# Altium schematic symbol library ld_pulser.SCHLIB: 75 symbols (part 2 of 2)
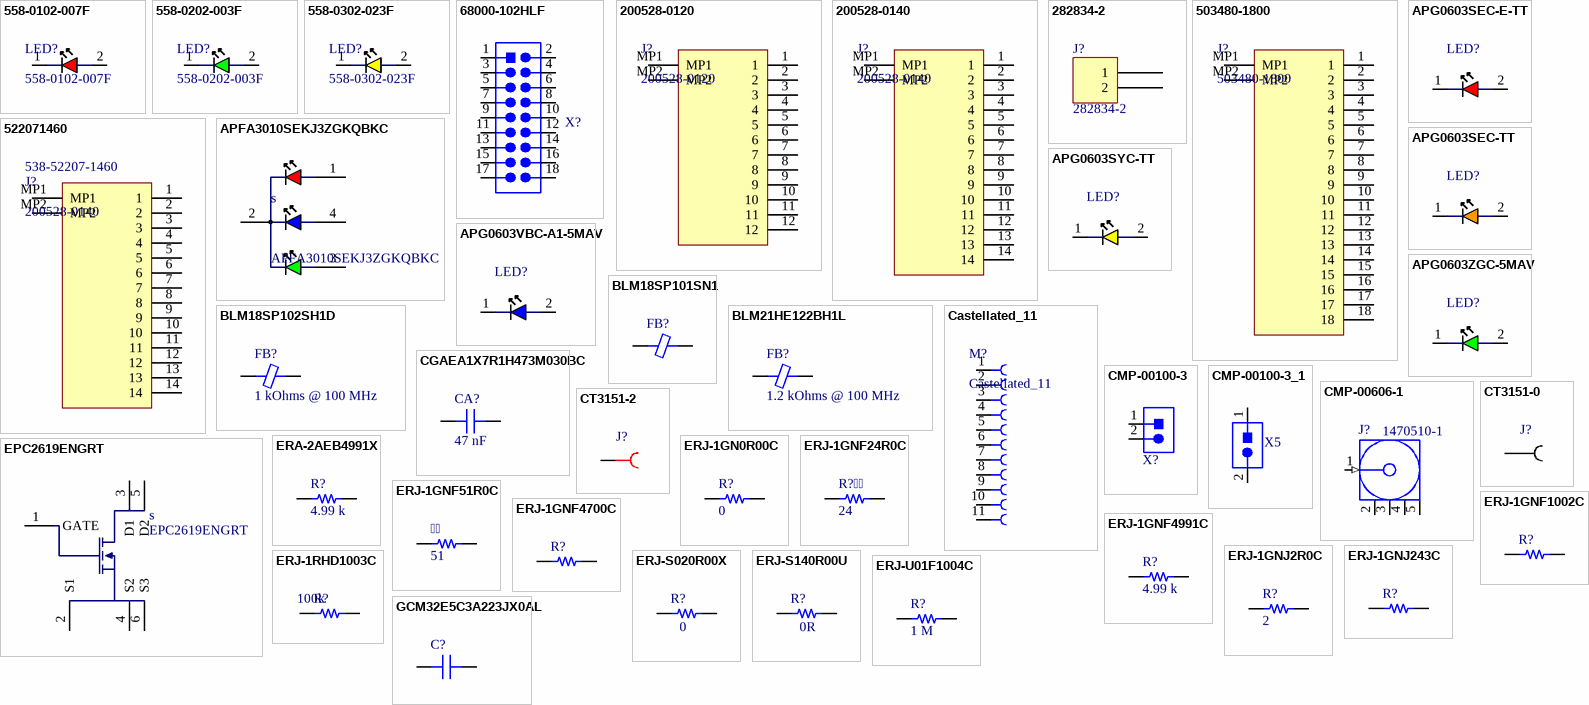
[diagram p2: symbols 558-0102-007F to GCM32E5C3A223JX0AL]

## ERJ-S140R00U
designator R?, comment 0R
RES SMD 0OHM 1/2W 200V 1210; Manufacturer: Panasonic; Manufacturer Part Number: ERJ-S140R00U; Power: 500mW; Rated Temperature: 70°C; Package Height: 0.6mm; Package Length: 3.2mm; Package Width: 2.5mm; Reference Standard: IEC; ComponentLink1URL: https://datasheet.ciiva.com:443/pdfs/VipMasterIC/IC/PANA/PANA-S-A0008969865/PANA-S-A0008969865-1.pdf?src-supplier=IHS+Markit; ComponentLink1Description: https://datasheet.ciiva.com:443/pdfs/VipMasterIC/IC/PANA/PANA-S-A0008969865/PANA-S-A0008969865-1.pdf?src-supplier=IHS+Markit; ComponentLink2URL: https://datasheet.ciiva.com/24051/aoa0000ce5-24051112.pdf?src-supplier=Mouser; ComponentLink2Description: https://datasheet.ciiva.com/24051/aoa0000ce5-24051112.pdf?src-supplier=Mouser; Supplier 1: Mouser; RoHS: Yes; Category: Chip SMD Resistors; Stock 1: 9713; Pricing 1: 1=0.42, 10=0.153, 50=0.153, 100=0.097, 1000=0.073, 10000=0.065 (USD); Mounting Technology: Surface Mount; Pins: 2; Package Shape: Rectangular; Case/Package: 1210; Terminal Finish: Tin; Min Operating Temperature: -55°C; Max Operating Temperature: 155°C; JESD-609 Code: e3; Resistor Type: FIXED RESISTOR; Construction: Rectangular; Package Style: SMTMeter; Packaging: Tape and Reel; Value: 0R; Technology: METAL GLAZE/THICK FILM; Termination: Wraparound; Reach SVHC Compliant: Yes; RoHS Compliant: Yes; ComponentLink3URL: https://datasheet.ciiva.com/24050/aoa0000ce5-24050677.pdf?src-supplier=Mouser; ComponentLink3Description: https://datasheet.ciiva.com/24050/aoa0000ce5-24050677.pdf?src-supplier=Mouser; Supplier Part Number 1: 667-ERJ-S140R00U
footprint CAP 1210_3225 - 1MM (Chip Capacitor, 2-Leads, Body 3.20x2.50mm, IPC Medium Density)
pins: 1, 2

## ERJ-U01F1004C
designator R?, comment 1 M
RES SMD 1MOHM 1% 1/20W 0201; Manufacturer: Panasonic; Manufacturer Part Number: ERJ-U01F1004C; Supplier: Mouser; Supplier Part Number: 667-ERJ-U01F1004C; RoHS: Yes; Category: Chip SMD Resistors; Stock: 28729; Pricing: 1=0.35, 10=0.157, 50=0.157, 100=0.071, 1000=0.049, 10000=0.038 (USD); ComponentLink1URL: https://datasheet.ciiva.com/24200/ras-erj-u-267552-24200389.pdf?src-supplier=Mouser; ComponentLink1Description: https://datasheet.ciiva.com/24200/ras-erj-u-267552-24200389.pdf?src-supplier=Mouser; Supplier 1: Mouser; Supplier Part Number 1: 667-ERJ-U01F1004C
footprint RES 0201_0603
pins: 1, 2

## GCM32E5C3A223JX0AL
designator C?
CAP CER 22nF 1kV C0G 1210; Manufacturer: Murata; Manufacturer Part Number: GCM32E5C3A223JX0AL; Supplier 1: Mouser; RoHS: No; Category: Ceramic Capacitors; Stock 1: 1332; Pricing 1: 1=1.22, 10=0.843, 50=0.843, 100=0.678, 1000=0.497, 10000=0.412 (USD); Supplier Part Number 1: 81-GCM325C3A223JX0AL
footprint CAP 1210_3225 - 1MM
pins: 1, 2

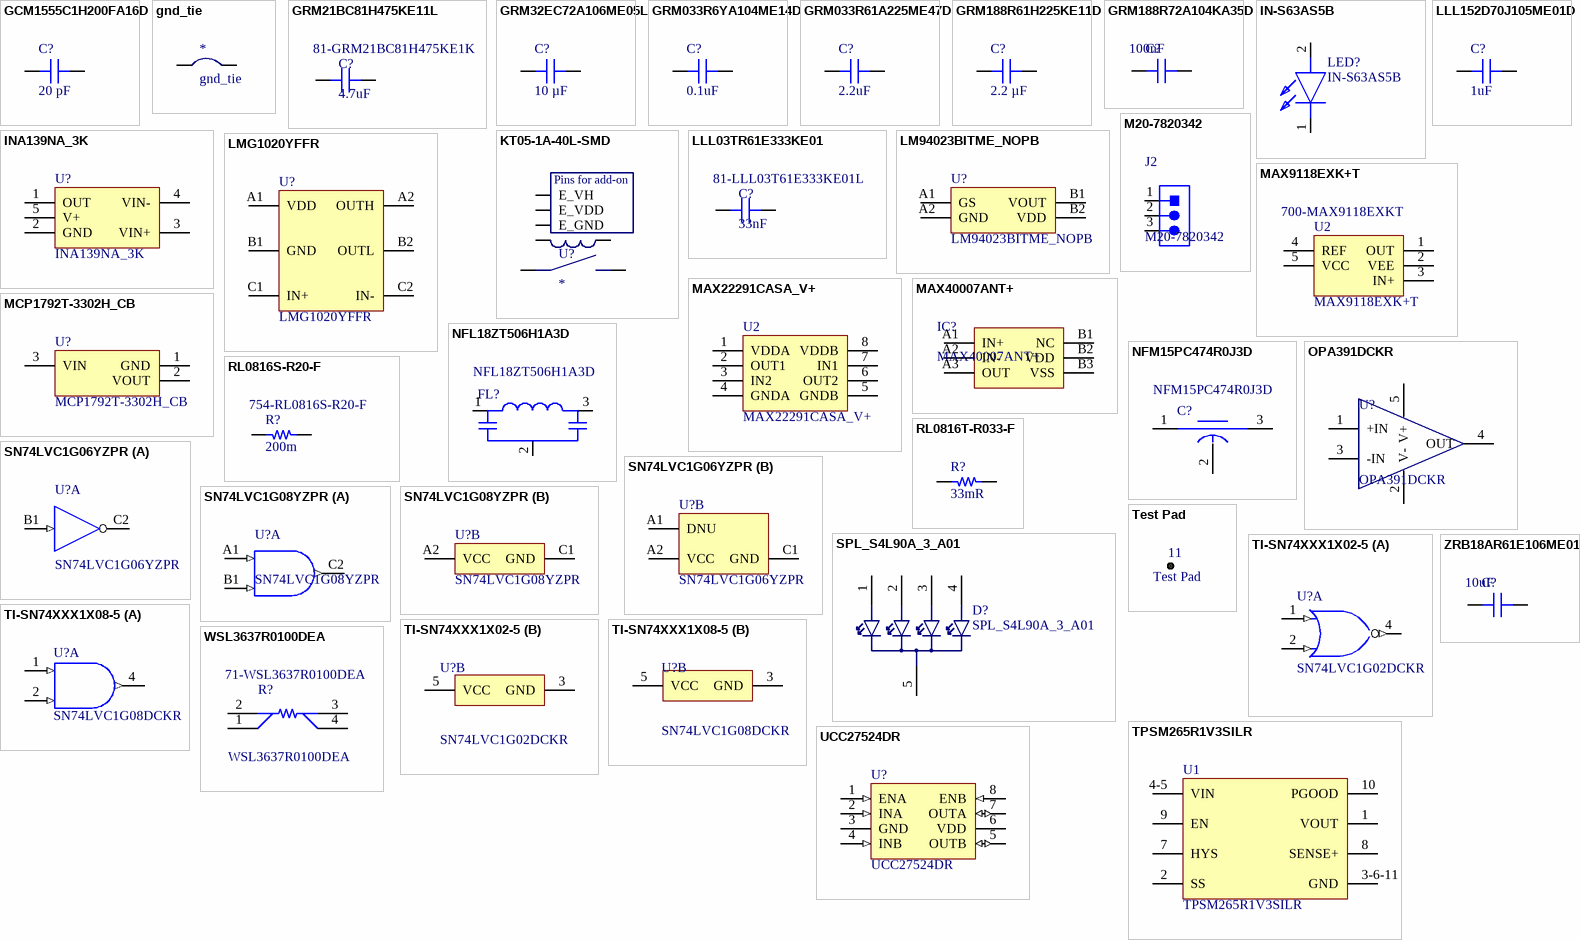
[diagram p1: symbols GCM1555C1H200FA16D to ZRB18AR61E106ME01L]

## GCM1555C1H200FA16D
designator C?, comment 20 pF
CAP CER 20PF 50V C0G/NP0 0402; Part Number: GCM1555C1H200FA16D; manufacturer: Murata Electronics; Temperature Coefficient: C0G, NP0; Tolerance: ±1%; Applications: Automotive; Capacitance: 20 pF; componentlink1description: Datasheet; componentlink1url: https://search.murata.co.jp/Ceramy/image/img/A01X/G101/ENG/GCM1555C1H200FA16-01.pdf; componentlink2description: DigiKey Link; componentlink2url: https://www.digikey.com/en/products/detail/murata-electronics/GCM1555C1H200FA16D/13401847; Device Package: 0402 (1005 Metric); lastupdated: 15/07/2023 19:03:20; Lifecycle Status: Active; Minimum Order: 1; Mounting Type: Surface Mount, MLCC; Operating Temperature: -55°C ~ 125°C; Package / Case: 0402 (1005 Metric); packaging: TapeAndReel; partid: 45712; Part Status: Active; price: 0.01; Ratings: AEC-Q200; series: GCM; Size / Dimension: 0.039" L x 0.020" W (1.00mm x 0.50mm); Thickness (Max): 0.022" (0.55mm); Voltage - Rated: 50V; Supplier 1: Digi-Key; Supplier Part Number 1: 490-GCM1555C1H200FA16DCT-ND; Supplier 2: Mouser; Supplier Part Number 2: 81-GCM1555C1H200FA6D; Value: 20 pF
footprint CAP 0402_1005
pins: 1, 2

## gnd_tie
designator *  (net tie, no BOM)
footprint GND_TIE
pins: 1, 2

## GRM21BC81H475KE11L
designator C?, comment 4.7uF  Supplier Part Number 1: 81-GRM21BC81H475KE1K
CAP CER 4.7UF 50V X6S 0805; Manufacturer: Murata; Manufacturer Part Number: GRM21BC81H475KE11L; Dielectric Material: Ceramic; Tolerance  (fill in as +-): 10%; Multilayer: Yes; Supplier: Mouser; Supplier Part Number: 81-GRM21BC81H475KE1L; RoHS: Yes; Category: Ceramic Capacitors; Stock: 22290; Pricing: 1=0.29, 10=0.141, 50=0.141, 100=0.091, 1000=0.077, 10000=0.062 (USD); Mounting Technology: Surface Mount; Pins: 2; Case/Package: 0805; Terminal Finish: Nickel; Package Shape: Rectangular; Min Operating Temperature: -55°C; Max Operating Temperature: 105°C; JESD-609 Code: e3; Value: 4.7uF; Capacitor Type: Ceramic; Package Style: SMTMeter; Packaging: Tape and Reel; Tolerance (fill in as +-): 10%; Rated DC Voltage (URdc): 50V; Temperature Characteristics Code: X6S; Termination: Wraparound; Length: 2mm; Width: 1.25mm; Height: 1.25mm; Reach SVHC Compliant: Yes; RoHS Compliant: Yes; ComponentLink1URL: https://datasheet.ciiva.com:443/pdfs/VipMasterIC/IC/MURE/MURE-S-A0004349797/MURE-S-A0004361772-1.pdf?src-supplier=IHS+Markit; ComponentLink1Description: https://datasheet.ciiva.com:443/pdfs/VipMasterIC/IC/MURE/MURE-S-A0004349797/MURE-S-A0004361772-1.pdf?src-supplier=IHS+Markit; ComponentLink2URL: http://www.mouser.com/ds/2/281/c02e-2905.pdf?src-supplier=Mouser; ComponentLink2Description: http://www.mouser.com/ds/2/281/c02e-2905.pdf?src-supplier=Mouser; ComponentLink3URL: http://search.murata.co.jp/Ceramy/image/img/A01X/G101/ENG/GRM21BC81H475KE11-01.pdf?src-supplier=Digi-Key; ComponentLink3Description: http://search.murata.co.jp/Ceramy/image/img/A01X/G101/ENG/GRM21BC81H475KE11-01.pdf?src-supplier=Digi-Key; ComponentLink4URL: https://search.murata.co.jp/Ceramy/image/img/A01X/G101/ENG/GRM21BC81H475KE11-01.pdf?src-supplier=Digi-Key; ComponentLink4Description: https://search.murata.co.jp/Ceramy/image/img/A01X/G101/ENG/GRM21BC81H475KE11-01.pdf?src-supplier=Digi-Key; Supplier 1: Mouser
footprint CAP 0805_2012 (Chip Capacitor, 2-Leads, Body 2.00x1.20mm, IPC Medium Density)
pins: 1, 2

## GRM32EC72A106ME05L
designator C?, comment 10 µF
CAP CER 10UF 100V X7S 1210; Part Number: GRM32EC72A106ME05L; manufacturer: Murata Electronics; Tolerance: ±20%; Applications: General Purpose; Capacitance: 10 µF; componentlink1description: Datasheet; componentlink1url: https://search.murata.co.jp/Ceramy/image/img/A01X/G101/ENG/GRM32EC72A106ME05-01A.pdf; componentlink2description: DigiKey Link; componentlink2url: https://www.digikey.com/en/products/detail/murata-electronics/GRM32EC72A106ME05L/16033383; Device Package: 1210 (3225 Metric); lastupdated: 16/07/2023 19:11:38; Lifecycle Status: Active; Minimum Order: 1; Mounting Type: Surface Mount, MLCC; Operating Temperature: -55°C ~ 125°C; Package / Case: 1210 (3225 Metric); packaging: TapeAndReel; partid: 44868; Part Status: Active; price: 0.28; series: GRM; Size / Dimension: 0.126" L x 0.098" W (3.20mm x 2.50mm); Temperature Coefficient: X7S; Thickness (Max): 0.106" (2.70mm); Voltage - Rated: 100V; Supplier 1: Digi-Key; Supplier Part Number 1: 490-GRM32EC72A106ME05LCT-ND; Value: 10 µF
footprint CAP 1210_3225 - 1MM
pins: 1, 2

## GRM033R6YA104ME14D
designator C?, comment 0.1uF
CAP CER 0.1UF 35V X5R 0201; Part Number: GRM033R6YA104ME14D; manufacturer: Murata Electronics; Capacitance: 0.1 µF; Tolerance: ±20%; Applications: General Purpose; componentlink1description: Datasheet; componentlink1url: https://search.murata.co.jp/Ceramy/image/img/A01X/G101/ENG/GRM033R6YA104ME14-01.pdf; componentlink2description: DigiKey Link; componentlink2url: https://www.digikey.com/en/products/detail/murata-electronics/GRM033R6YA104ME14D/5027516; Device Package: 0201 (0603 Metric); lastupdated: 15/07/2023 19:00:56; Lifecycle Status: Active; Minimum Order: 1; Mounting Type: Surface Mount; Operating Temperature: -55°C ~ 85°C; Package / Case: 0201 (0603 Metric); packaging: CutTape; partid: 17; Part Status: Active; price: 0.01; series: GRM; Size / Dimension: 0.024" L x 0.012" W (0.60mm x 0.30mm); Temperature Coefficient: X5R; Thickness (Max): 0.013" (0.33mm); Voltage - Rated: 35V; Supplier 1: Digi-Key; Supplier Part Number 1: 490-10431-1-ND; Supplier 2: Mouser; Supplier Part Number 2: 81-GRM33R6YA104ME14D; Value: 0.1uF
footprint CAP 0201_0603
pins: 1, 2

## GRM033R61A225ME47D
designator C?, comment 2.2uF
CAP CER 2.2UF 10V X5R 0201; Manufacturer: Murata; Manufacturer Part Number: GRM033R61A225ME47D; Dielectric Material: Ceramic; Multilayer: Yes; Tolerance  (fill in as +-): 20%; Supplier: Digi-Key; Supplier Part Number: 490-13228-1-ND; RoHS: Yes; Category: Ceramic Capacitors; Stock: 1914434; Pricing: 1=0.24, 10=0.164, 50=0.0986, 100=0.0833, 500=0.05702, 1000=0.05044, 2500=0.04825, 5000=0.04386 (USD); Mounting Technology: Surface Mount; Pins: 2; Package Shape: Rectangular; Case/Package: 0201; Min Operating Temperature: -55°C; Max Operating Temperature: 85°C; Capacitor Type: Ceramic; Packaging: Tape and Reel; Tolerance (fill in as +-): 20%; Rated DC Voltage (URdc): 10V; Temperature Characteristics Code: X5R; Termination: Wraparound; Reach SVHC Compliant: Yes; RoHS Compliant: Yes; ComponentLink1URL: https://datasheet.ciiva.com:443/pdfs/VipMasterIC/IC/MURE/MURE-S-A0002781892/MURE-S-A0002781892-1.pdf?src-supplier=IHS+Markit; ComponentLink1Description: https://datasheet.ciiva.com:443/pdfs/VipMasterIC/IC/MURE/MURE-S-A0002781892/MURE-S-A0002781892-1.pdf?src-supplier=IHS+Markit; ComponentLink2URL: http://search.murata.co.jp/Ceramy/image/img/A01X/G101/ENG/GRM033R61A225ME47-01.pdf?src-supplier=Digi-Key; ComponentLink2Description: http://search.murata.co.jp/Ceramy/image/img/A01X/G101/ENG/GRM033R61A225ME47-01.pdf?src-supplier=Digi-Key; ComponentLink3URL: https://www.murata.com/~/media/webrenewal/support/library/catalog/products/capacitor/mlcc/c02e.ashx?la=en-us&src-supplier=Digi-Key; ComponentLink3Description: https://www.murata.com/~/media/webrenewal/support/library/catalog/products/capacitor/mlcc/c02e.ashx?la=en-us&src-supplier=Digi-Key; ComponentLink4URL: https://datasheet.octopart.com/GRM033R61A225ME47D-Murata-datasheet-149522795.pdf?src-supplier=Newark; ComponentLink4Description: https://datasheet.octopart.com/GRM033R61A225ME47D-Murata-datasheet-149522795.pdf?src-supplier=Newark; ComponentLink5URL: https://datasheet.octopart.com/GRM033R61A225ME47D-Murata-datasheet-86568079.pdf?src-supplier=Future+Electronics; ComponentLink5Description: https://datasheet.octopart.com/GRM033R61A225ME47D-Murata-datasheet-86568079.pdf?src-supplier=Future+Electronics; Supplier 1: Mouser; Supplier Part Number 1: 81-GRM033R61A225ME7D; Value: 2.2uF
footprint CAP 0201_0603
pins: 1, 2

## GRM188R61H225KE11D
designator C?, comment 2.2 µF
CAP CER 2.2UF 50V X5R 0603; Part Number: GRM188R61H225KE11D; manufacturer: Murata Electronics; Tolerance: ±10%; Applications: General Purpose; Capacitance: 2.2 µF; componentlink1description: Datasheet; componentlink1url: https://search.murata.co.jp/Ceramy/image/img/A01X/G101/ENG/GRM188R61H225KE11-01.pdf; componentlink2description: DigiKey Link; componentlink2url: https://www.digikey.com/en/products/detail/murata-electronics/GRM188R61H225KE11D/4905363; Device Package: 0603 (1608 Metric); lastupdated: 15/07/2023 19:07:37; Lifecycle Status: Active; Minimum Order: 1; Mounting Type: Surface Mount, MLCC; Operating Temperature: -55°C ~ 85°C; Package / Case: 0603 (1608 Metric); packaging: TapeAndReel; partid: 39151; Part Status: Active; price: 0.04; series: GRM; Size / Dimension: 0.063" L x 0.031" W (1.60mm x 0.80mm); Supplier 1: DigiKey; Supplier Part Number 1: 490-10733-1-ND; Temperature Coefficient: X5R; Thickness (Max): 0.039" (1.00mm); Voltage - Rated: 50V; Supplier 2: Mouser; Supplier Part Number 2: 81-GRM188R61H225KE1D; Value: 2.2 µF
footprint CAP 0603_1608
pins: 1, 2

## GRM188R72A104KA35D
designator C?, comment 100nF
CAP CER 100nF 100V X7R 0603; Manufacturer: Murata; Manufacturer Part Number: GRM188R72A104KA35D; Dielectric Material: Ceramic; Multilayer: Yes; Tolerance  (fill in as +-): 10%; Supplier 1: Mouser; RoHS: Yes; Category: Ceramic Capacitors; Stock 1: 271684; Pricing 1: 1=0.2, 10=0.086, 50=0.086, 100=0.05, 1000=0.043, 10000=0.035 (USD); Mounting Technology: Surface Mount; Pins: 2; Package Shape: Rectangular; Case/Package: 0603; Terminal Finish: Nickel; Min Operating Temperature: -55°C; Max Operating Temperature: 125°C; JESD-609 Code: e3; Value: 100nF; Capacitor Type: Ceramic; Packaging: Tape and Reel; Tolerance (fill in as +-): 10%; Rated DC Voltage (URdc): 100V; Temperature Characteristics Code: X7R; Termination: Wraparound; Package Style: SMTMeter; Length: 1.6mm; Width: 0.8mm; Height: 0.8mm; Reach SVHC Compliant: Yes; RoHS Compliant: Yes; ComponentLink1URL: https://psearch.en.murata.com:443/capacitor/product/GRM188R72A104KA35%23.pdf?src-supplier=IHS+Markit; ComponentLink1Description: https://psearch.en.murata.com:443/capacitor/product/GRM188R72A104KA35%23.pdf?src-supplier=IHS+Markit; ComponentLink2URL: https://datasheet.ciiva.com/22703/1747473-22703345.pdf?src-supplier=Element14; ComponentLink2Description: https://datasheet.ciiva.com/22703/1747473-22703345.pdf?src-supplier=Element14; ComponentLink3URL: https://datasheet.ciiva.com/135/partnumbering-e-01-135139.pdf?src-supplier=Digikey; ComponentLink3Description: https://datasheet.ciiva.com/135/partnumbering-e-01-135139.pdf?src-supplier=Digikey; Supplier Part Number 1: 81-GRM188R72A104KA35
footprint CAP 0603_1608
pins: 1, 2

## IN-S63AS5B
designator LED?
LED Yellow; Manufacturer_Name: Inolux; Datasheet Link: http://www.inolux-corp.com/datasheet/SMDLED/Mono%20Color%20Side%20View/IN-S63AS%20Series_V1.0.pdf; Height: 0.6mm; Manufacturer_Part_Number: IN-S63AS5B; Mouser Part Number: 743-IN-S63AS5B; Mouser Price/Stock: https://www.mouser.co.uk/ProductDetail/Inolux/IN-S63AS5B?qs=fAHHVMwC%252BbgzW8KiPFfE%252Bg%3D%3D; Arrow Part Number: IN-S63AS5B; Arrow Price/Stock: https://www.arrow.com/en/products/in-s63as5b/inolux-corporation?region=nac
footprint INS63AS5B
pins: 1 K, 2 A

## INA139NA_3K
designator U?
IC Inamp high-side current monitor; Manufacturer: Texas Instruments; Manufacturer Part Number: INA139NA/3K; Package Body Material: Plastic; Amplifier Type: INSTRUMENTATION AMPLIFIER; Bandwidth (3dB)-Nom: 440kHz; Common Mode Rejection Ratio-Min: 100dB; Input Offset Voltage-Max: 1mV; Non-linearity-Max: 0.1%; Channels: 1; Package Equivalence Code: TSSOP14,.25; Supply Voltage Limit-Max: 60V; Nominal Supply Voltage: 5V; Voltage Gain-Max: 100; Average Bias Current-Max (IIB): 10uA; Qualification Status: Not Qualified; Supplier 1: Mouser; RoHS: Yes; Category: Amplifiers - Op Amps, Buffer, Instrumentation; Stock 1: 21999; Pricing 1: 1=1.5, 10=1.27, 50=1.27, 100=1.02, 1000=0.737, 10000=0.736 (USD); Case/Package: LSSOP; Pins: 5; Package Shape: Rectangular; Terminal Finish: Nickel; Min Operating Temperature: -40°C; Max Operating Temperature: 125°C; JESD-609 Code: e4; JESD-30 Code: R-PDSO-G5; Moisture Sensitivity Level: 2; Package Style: SMALL OUTLINE, LOW PROFILE, SHRINK PITCHMeter; Packaging: Tape and Reel; Peak Reflow Temperature (Cel): 260°C; Surface Mount: Yes; Terminal Form: Gull Wing; Terminal Position: DUAL; Voltage Gain-Min: 1; Length: 2.9mm; Width: 1.6mm; Height - Seated (Max): 1.45mm; Terminal Pitch: 0.95mm; Temperature Grade: AUTOMOTIVE; Reach SVHC Compliant: Yes; RoHS Compliant: Yes; ComponentLink1URL: https://www.ti.com:443/lit/ds/symlink/ina139.pdf?src-supplier=IHS+Markit; ComponentLink1Description: https://www.ti.com:443/lit/ds/symlink/ina139.pdf?src-supplier=IHS+Markit; ComponentLink2URL: https://datasheet.ciiva.com/15128/getdatasheetpartid-248784-15128606.pdf?src-supplier=Verical; ComponentLink2Description: https://datasheet.ciiva.com/15128/getdatasheetpartid-248784-15128606.pdf?src-supplier=Verical; ComponentLink3URL: https://datasheet.ciiva.com/1939/ina139-1939993.pdf?src-supplier=Digi-Key; ComponentLink3Description: https://datasheet.ciiva.com/1939/ina139-1939993.pdf?src-supplier=Digi-Key; ComponentLink4URL: https://datasheet.ciiva.com/2976/ina169-2976115.pdf?src-supplier=Avnet; ComponentLink4Description: https://datasheet.ciiva.com/2976/ina169-2976115.pdf?src-supplier=Avnet; ComponentLink5URL: https://datasheet.ciiva.com/1939/ina139-1939992.pdf?src-supplier=Digi-Key; ComponentLink5Description: https://datasheet.ciiva.com/1939/ina139-1939992.pdf?src-supplier=Digi-Key; ComponentLink6URL: https://datasheet.ciiva.com/1939/ina139-1939994.pdf?src-supplier=Digi-Key; ComponentLink6Description: https://datasheet.ciiva.com/1939/ina139-1939994.pdf?src-supplier=Digi-Key; Supplier Part Number 1: 595-INA139NA/3K
footprint SOT95P280X145-5N
pins: 1 OUT, 2 GND, 3 VIN+, 4 VIN-, 5 V+

## KT05-1A-40L-SMD
designator U?
Dry Reed Relay, SPST, Momentary, 0.063A (Coil), 5VDC (Coil), 315mW (Coil), 1A (Contact), 1000VDC (Contact), DC Input, AC/DC Output, Surface Mount-Straight; Manufacturer: Standex-Meder Electronics; Manufacturer Part Number: KT05-1A-40L-SMD; Coil Current(DC)-Max: 63mA; Coil Operate Voltage(DC): 3.5V; Coil Release Voltage(DC): 500mV; Coil Resistance: 80R; Coil Voltage(DC)-Max: 5V; Contact AC Max Rating R Load: 1A@1000VAC; Contact DC Max Rating R Load: 1A@1000VDC; Contact Voltage(AC)-Max: 1kV; Operate Time: 1.1ms; Release Time: 0.1ms; Body Breadth: 11inch; Body Height: 9mm; Body Length or Diameter: 30mm; Supplier 1: Mouser; RoHS: Yes; Stock 1: 3009; Pricing 1: 1=9.26, 10=8.68, 50=7.33, 100=6.94, 1000=5.17, 10000=5.17 (USD); Mounting Technology: Surface Mount; Min Operating Temperature: -40°C; Max Operating Temperature: 125°C; Termination: Solder; Coil Power: 315mW; Coil/Input Supply Type: DC; Contact Current(AC)-Max: 1A; Contact Current(DC)-Max: 1A; Contact Voltage(DC)-Max: 1kV; Contact/Output Supply Type: AC/DC; Relay Action: MOMENTARY; Relay Function: SPST; Relay Type: DRY REED RELAY; Reach SVHC Compliant: Yes; RoHS Compliant: Yes; ComponentLink1URL: https://datasheet.ciiva.com:443/pdfs/VipMasterIC/IC/STME/STME-S-A0004366044/STME-S-A0004366044-1.pdf?src-supplier=IHS+Markit; ComponentLink1Description: https://datasheet.ciiva.com:443/pdfs/VipMasterIC/IC/STME/STME-S-A0004366044/STME-S-A0004366044-1.pdf?src-supplier=IHS+Markit; ComponentLink2URL: https://datasheet.ciiva.com/29759/9005185401e-29759777.pdf?src-supplier=Digikey; ComponentLink2Description: https://datasheet.ciiva.com/29759/9005185401e-29759777.pdf?src-supplier=Digikey; Supplier Part Number 1: 876-KT05-1A-40L-SMD
footprint KT05-1A-40L-SMD
footprint KT05-1A-40L-SMD_extra_power_supply
pins: 1, 2, 3, 4, E_GND, E_VDD, E_VH
text: Pins for add-on

## LLL03TR61E333KE01
designator C?, comment 33nF  Supplier Part Number 1: 81-LLL03T61E333KE01L
CAP LOW L CER 33nF 25V X5R 0102; Manufacturer: Murata; Manufacturer Part Number: LLL03TR61E333KE01L; Supplier: Digi-Key; Supplier Part Number: 490-LLL03TR61E333KE01LCT-ND; RoHS: Yes; Stock: 19050; Pricing: 1=0.3, 10=0.208, 50=0.1386, 100=0.1179, 500=0.08322, 1000=0.07281, 2500=0.06934, 5000=0.06414 (USD); Reach SVHC Compliant: Yes; RoHS Compliant: Yes; Supplier 1: Mouser
footprint FP-LLL03T-0_03-IPC_C
pins: 1, 2

## LLL152D70J105ME01D
designator C?, comment 1uF
CAP LOW L CER 1UF 6.3V X7T 0204; Manufacturer: Murata; Manufacturer Part Number: LLL152D70J105ME01D; Supplier: Mouser; Supplier Part Number: 81-LLL152D70J105ME01; RoHS: No; Category: Ceramic Capacitors; Stock: 241363; Pricing: 1=0.32, 10=0.173, 50=0.173, 100=0.104, 1000=0.08, 10000=0.06 (USD); Supplier 1: Mouser; Supplier Part Number 1: 81-LLL152D70J105ME01
footprint FP-LLL152-0_2-MFG
footprint FP-LLL152-0_2-IPC_C
footprint FP-LLL152-0_2-IPC_B
footprint FP-LLL152-0_2-IPC_A
pins: 1, 2

## LM94023BITME_NOPB
designator U?
IC temperature sensor; Manufacturer_Name: Texas Instruments; Manufacturer_Part_Number: LM94023BITME/NOPB; Datasheet Link: http://www.ti.com/lit/gpn/lm94023; Height: 0.675mm; Mouser Part Number: 926-94023BITME/NOPB; Mouser Price/Stock: https://www.mouser.co.uk/ProductDetail/Texas-Instruments/LM94023BITME-NOPB?qs=QbsRYf82W3GaNge%252BVoa5rg%3D%3D; Arrow Part Number: LM94023BITME/NOPB; Arrow Price/Stock: https://www.arrow.com/en/products/lm94023bitmenopb/texas-instruments; Supplier 1: Mouser; Supplier Part Number 1: 926-94023bitME/NOPB
footprint BGA4C40P2X2_81X81X68
pins: A1 GS, A2 GND, B1 VOUT, B2 VDD

## LMG1020YFFR
designator U?
IC Pulser; Manufacturer_Name: Texas Instruments; Datasheet Link: http://www.ti.com/lit/gpn/lmg1020; Height: 0.625mm; Manufacturer_Part_Number: LMG1020YFFR; Mouser Part Number: 595-LMG1020YFFR; Mouser Price/Stock: https://www.mouser.co.uk/ProductDetail/Texas-Instruments/LMG1020YFFR?qs=r5DSvlrkXmJq0cROAgTXeg%3D%3D; Arrow Part Number: LMG1020YFFR; Arrow Price/Stock: https://www.arrow.com/en/products/lmg1020yffr/texas-instruments?region=nac; Supplier 1: Mouser; Supplier Part Number 1: 595-LMG1020YFFR
footprint BGA6C40P2X3_86X126X62
pins: A1 VDD, A2 OUTH, B1 GND, B2 OUTL, C1 IN+, C2 IN-

## M20-7820342
designator J2
Header 3 Positions, Unshrouded Connector 0.100" (2.54mm) Through Hole Gold or Gold, GXT™; Manufacturer: Harwin Inc.; Connector Type: Receptacle; Contact Length - Post: 0.118" (3.00mm); Current Rating (Amps): 3A; Mated Stacking Heights: 11.04mm, 12.63mm; Material Flammability Rating: UL94 V-0; Number of Positions: 3; Number of Positions Loaded: All; Style: Board to Board or Cable; Part Number: M20-7820342; ComponentLink1Description: Datasheet; ComponentLink1URL: https://cdn.harwin.com/pdfs/Harwin_PC_Connectors_M20.pdf; ComponentLink2Description: DigiKey Link; ComponentLink2URL: https://www.digikey.com/en/products/detail/harwin-inc/M20-7820342/3727752; Contact Finish - Mating: Gold; Contact Finish - Post: Tin; Contact Finish Thickness - Mating: Flash; Contact Type: Female Socket; Fastening Type: Push-Pull; Insulation Color: Black; Insulation Height: 0.335" (8.51mm); LastUpdated: 21/09/2022 18:55:13; Lifecycle Status: Active; Minimum Order: 1; Mounting Type: Through Hole; Number of Rows: 1; Operating Temperature: -40°C ~ 105°C; Packaging: Tube; Part Status: Active; Pitch - Mating: 0.100" (2.54mm); Price: 0.42; Series: M20; Supplier 1: DigiKey; Supplier Part Number 1: 952-1783-ND; Termination: Solder
footprint HARWIN M20-7820345 (2.54mm DIL PC TAIL PIN HEADER ASSEMBLY)
pins: 1, 2, 3

## MAX9118EXK+T
designator U2  Supplier Part Number 1: 700-MAX9118EXKT
IC comparator; Manufacturer: Maxim; Package Body Material: Plastic; Output Type: OPEN-DRAIN; Average Bias Current-Max (IIB): 2nA; Bias Current-Max (IIB) @25C: 1nA; Input Offset Voltage-Max: 10mV; Channels: 1; Package Equivalence Code: TSSOP5/6,.08; Power Supplies: 2.5V; Max Supply Current: 1.3uA; Supply Voltage Limit-Max: 6V; Nominal Supply Voltage: 5V; Qualification Status: Not Qualified; Supplier 1: Mouser; Manufacturer Part Number: MAX9118EXK+T; RoHS: Yes; Category: Comparators; Stock 1: 3088; Pricing 1: 1=2.47, 10=2.16, 50=2.16, 100=1.97, 1000=1.38, 10000=1.26 (USD); Case/Package: TSSOP; Pins: 5; Package Shape: Rectangular; Terminal Finish: Tin; Min Operating Temperature: -40°C; Max Operating Temperature: 85°C; JESD-609 Code: e3; Amplifier Type: COMPARATOR; JESD-30 Code: R-PDSO-G5; Moisture Sensitivity Level: 1; Package Style: SMALL OUTLINE, THIN PROFILE, SHRINK PITCHMeter; Peak Reflow Temperature (Cel): 260°C; Surface Mount: Yes; Terminal Form: Gull Wing; Terminal Position: DUAL; Length: 2mm; Width: 1.25mm; Height - Seated (Max): 1.1mm; Terminal Pitch: 0.65mm; Reach SVHC Compliant: Yes; RoHS Compliant: Yes; Temperature Grade: INDUSTRIAL; ComponentLink1URL: https://datasheet.ciiva.com:443/pdfs/VipMasterIC/IC/MAXM/MAXMS06218/MAXMS06218-1.pdf?src-supplier=IHS+Markit; ComponentLink1Description: https://datasheet.ciiva.com:443/pdfs/VipMasterIC/IC/MAXM/MAXMS06218/MAXMS06218-1.pdf?src-supplier=IHS+Markit; ComponentLink2URL: https://datasheet.ciiva.com/1828/max9117-max9120-1828265.pdf?src-supplier=Digi-Key; ComponentLink2Description: https://datasheet.ciiva.com/1828/max9117-max9120-1828265.pdf?src-supplier=Digi-Key; ComponentLink3URL: https://datasheet.ciiva.com/1828/max9117-max9120-1828266.pdf?src-supplier=Digi-Key; ComponentLink3Description: https://datasheet.ciiva.com/1828/max9117-max9120-1828266.pdf?src-supplier=Digi-Key; ComponentLink4URL: https://datasheet.ciiva.com/1828/max9117-max9120-1828267.pdf?src-supplier=Digi-Key; ComponentLink4Description: https://datasheet.ciiva.com/1828/max9117-max9120-1828267.pdf?src-supplier=Digi-Key; ComponentLink5URL: https://datasheet.ciiva.com/2972/max9117-max9120-2972518.pdf?src-supplier=Avnet; ComponentLink5Description: https://datasheet.ciiva.com/2972/max9117-max9120-2972518.pdf?src-supplier=Avnet; ComponentLink6URL: https://datasheet.ciiva.com/2971/max9117-max9120-2971017.pdf?src-supplier=Avnet; ComponentLink6Description: https://datasheet.ciiva.com/2971/max9117-max9120-2971017.pdf?src-supplier=Avnet; ComponentLink7URL: https://datasheet.ciiva.com/12286/max9117-max9120-12286604.pdf?src-supplier=Mouser; ComponentLink7Description: https://datasheet.ciiva.com/12286/max9117-max9120-12286604.pdf?src-supplier=Mouser
footprint SOT65P210X110-5N
pins: 1 OUT, 2 VEE, 3 IN+, 4 REF, 5 VCC

## MAX22291CASA_V+
designator U2
IC Digital Isolator, 2CH; Manufacturer: Maxim; Manufacturer Part Number: MAX22291CASA/V+; Supplier 1: Mouser; RoHS: No; Category: Uncategorized; Stock 1: 7613; Pricing 1: 1=3.43, 10=2.91, 50=2.91, 100=2.52, 1000=1.85, 10000=1.71 (USD); Supplier Part Number 1: 700-MAX22291CASA/V+
footprint SOIC127P600X175-8N
pins: 1 VDDA, 2 OUT1, 3 IN2, 4 GNDA, 5 GNDB, 6 OUT2, 7 IN1, 8 VDDB

## MAX40007ANT+
designator IC?
Operational Amplifier; Manufacturer: Maxim; Manufacturer Part Number: MAX40007ANT+T; Supplier 1: Mouser; RoHS: Yes; Category: Amplifiers - Op Amps, Buffer, Instrumentation; Stock 1: 4078; Pricing 1: 1=2.12, 10=1.86, 50=1.86, 100=1.53, 1000=1.04, 10000=0.932 (USD); Amplifier Type: OPERATIONAL AMPLIFIER; Reach SVHC Compliant: Yes; RoHS Compliant: Yes; ComponentLink1URL: https://datasheet.ciiva.com:443/pdfs/VipMasterIC/IC/MAXM/MAXM-S-A0004197655/MAXM-S-A0004197655-1.pdf?src-supplier=IHS+Markit; ComponentLink1Description: https://datasheet.ciiva.com:443/pdfs/VipMasterIC/IC/MAXM/MAXM-S-A0004197655/MAXM-S-A0004197655-1.pdf?src-supplier=IHS+Markit; ComponentLink2URL: https://datasheets.maximintegrated.com/en/ds/MAX40007.pdf?src-supplier=Digi-Key; ComponentLink2Description: https://datasheets.maximintegrated.com/en/ds/MAX40007.pdf?src-supplier=Digi-Key; Supplier Part Number 1: 700-MAX40007ANT+T
footprint BGA6C40P3X2_124X84X69
pins: A1 IN+, A2 IN-, A3 OUT, B1 NC, B2 VDD, B3 VSS

## MCP1792T-3302H_CB
designator U?
IC LDO 3V3; Manufacturer_Name: Microchip; Manufacturer_Part_Number: MCP1792T-3302H/CB; Height: 1.45mm; Mouser Part Number: 579-MCP1792T-3302HCB; Mouser Price/Stock: https://www.mouser.co.uk/ProductDetail/Microchip-Technology/MCP1792T-3302H-CB?qs=mAH9sUMRCtsJR7ybQ6HmQA%3D%3D; Arrow Part Number: MCP1792T-3302H/CB; Arrow Price/Stock: https://www.arrow.com/en/products/mcp1792t-3302hcb/microchip-technology?region=nac
footprint SOT95P255X145-3N
pins: 1 GND, 2 VOUT, 3 VIN

## NFL18ZT506H1A3D
designator FL?
LC Filter; Manufacturer_Name: Murata Electronics; Datasheet Link: https://www.murata.com/en-us/products/productdetail?partno=NFL18ZT506H1A3%23; Height: 0.7mm; Manufacturer_Part_Number: NFL18ZT506H1A3D; Mouser Part Number: 81-NFL18ZT506H1A3D; Mouser Price/Stock: https://www.mouser.co.uk/ProductDetail/Murata-Electronics/NFL18ZT506H1A3D?qs=Ey7%2FXF42M3fNYpmPMs%252BiMA%3D%3D; Supplier 1: Mouser; Supplier Part Number 1: 81-NFL18ZT506H1A3D
footprint NFL18ST107H1A3D
pins: 1, 2, 3

## NFM15PC474R0J3D
designator C?
CAP Feed Through, 470 nF, 6.3V, 2A, 3 Pin(s); Manufacturer: Murata; Tolerance: 20%; DC Resistance (DCR): 30mR; Capacitance: 470nF; Voltage Rating: 4V; Value: 470mF; Filter Type: FEED THROUGH CAPACITOR; Channels: 1; Length: 0.039inch; Max Operating Temperature: 105°C; Case/Package: 0402; Width: 0.02inch; Packaging: Tape and Reel; Current: 2A; Mount: Surface Mount; Height: 0.02inch; Min Operating Temperature: -55°C; Package Quantity: 10000; Manufacturer Part Number: NFM15PC474R0J3D; Supplier: Mouser; Supplier Part Number: 81-NFM15PC474R0J3D; RoHS: Yes; Category: Ceramic Capacitors; Stock: 109781; Pricing: 1=0.1, 10=0.048, 50=0.048, 100=0.043, 1000=0.027, 10000=0.024 (USD); Mounting Technology: Surface Mount; DC Resistance-Max: 30mR; Current Rating: 2A; Reach SVHC Compliant: Yes; RoHS Compliant: Yes; ComponentLink1URL: https://datasheet.ciiva.com:443/pdfs/VipMasterIC/IC/MURE/MURE-S-A0002978318/MURE-S-A0002990019-1.pdf?src-supplier=IHS+Markit; ComponentLink1Description: https://datasheet.ciiva.com:443/pdfs/VipMasterIC/IC/MURE/MURE-S-A0002978318/MURE-S-A0002990019-1.pdf?src-supplier=IHS+Markit; ComponentLink2URL: http://www.mouser.com/ds/2/281/c31e-794748.pdf?src-supplier=Mouser; ComponentLink2Description: http://www.mouser.com/ds/2/281/c31e-794748.pdf?src-supplier=Mouser; ComponentLink3URL: https://search.murata.co.jp/Ceramy/image/img/A01X/G101/ENG/NFM15PC474R0J3-01.pdf?src-supplier=Digi-Key; ComponentLink3Description: https://search.murata.co.jp/Ceramy/image/img/A01X/G101/ENG/NFM15PC474R0J3-01.pdf?src-supplier=Digi-Key; ComponentLink4URL: http://search.murata.co.jp/Ceramy/image/img/A01X/G101/ENG/NFM15PC474R0J3-01.pdf?src-supplier=Digi-Key; ComponentLink4Description: http://search.murata.co.jp/Ceramy/image/img/A01X/G101/ENG/NFM15PC474R0J3-01.pdf?src-supplier=Digi-Key; ComponentLink5URL: http://search.murata.co.jp/Ceramy/image/img/w_hinm/S0109E.pdf?src-supplier=Digi-Key; ComponentLink5Description: http://search.murata.co.jp/Ceramy/image/img/w_hinm/S0109E.pdf?src-supplier=Digi-Key; ComponentLink6URL: https://datasheet.octopart.com/NFM15PC474R0J3D-Murata-datasheet-82526264.pdf?src-supplier=Future+Electronics; ComponentLink6Description: https://datasheet.octopart.com/NFM15PC474R0J3D-Murata-datasheet-82526264.pdf?src-supplier=Future+Electronics; Supplier 1: Mouser; Supplier Part Number 1: 81-NFM15PC474R0J3D
footprint FP-NFM15-0_05-MFG
pins: 1 Input, 2 GND, 3 Output

## OPA391DCKR
designator U?
Integrated Circuit; Manufacturer_Name: Texas Instruments; Datasheet Link: https://www.ti.com/lit/ds/symlink/opa391.pdf?ts=1613652220116&ref_url=https%253A%252F%252Fwww.ti.com%252Fproduct%252FOPA391%253Fjktype%253Dhomepageproduct; Height: 1.1mm; Manufacturer_Part_Number: OPA391DCKR; Mouser Part Number: 595-OPA391DCKR; Mouser Price/Stock: https://www.mouser.co.uk/ProductDetail/Texas-Instruments/OPA391DCKR?qs=CiayqK2gdcK0KZT3BcNOuw%3D%3D; Arrow Part Number: OPA391DCKR; Arrow Price/Stock: https://www.arrow.com/en/products/opa391dckr/texas-instruments?region=nac
footprint SOT65P210X110-5N
pins: 1 +IN, 2 V-, 3 -IN, 4 OUT, 5 V+

## RL0816S-R20-F
designator R?, comment 200m  Supplier Part Number 2: 754-RL0816S-R20-F
RES 0.2 OHM 1% 1/5W 0603; Manufacturer: Susumu; Manufacturer Part Number: RL0816S-R20-F; Power: 200mW; Rated Temperature: 70°C; Temperature Coefficient: 200ppm/°C; Package Height: 0.45mm; Package Length: 1.6mm; Package Width: 0.8mm; Supplier 1: Digi-Key; RoHS: Yes; Category: Chip SMD Resistors; Stock 1: 21905; Pricing 1: 1=0.38, 10=0.278, 50=0.1654, 100=0.1167, 500=0.08908, 1000=0.06787 (USD); Mounting Technology: Surface Mount; Pins: 2; Case/Package: 0603; Terminal Finish: Tin; Min Operating Temperature: -55°C; Max Operating Temperature: 125°C; Tolerance: 1%; JESD-609 Code: e3; Resistor Type: FIXED RESISTOR; Construction: Rectangular; Package Style: SMTMeter; Packaging: Tape and Reel; Value: 200m; Termination: Wraparound; Reach SVHC Compliant: Yes; RoHS Compliant: Yes; ComponentLink1URL: https://datasheet.ciiva.com:443/pdfs/VipMasterIC/IC/SUSU/SUSU-S-A0004662802/SUSU-S-A0004662802-1.pdf?src-supplier=IHS+Markit; ComponentLink1Description: https://datasheet.ciiva.com:443/pdfs/VipMasterIC/IC/SUSU/SUSU-S-A0004662802/SUSU-S-A0004662802-1.pdf?src-supplier=IHS+Markit; ComponentLink2URL: https://datasheet.ciiva.com/2489/rl-data-sheet-2489458.pdf?src-supplier=Digi-Key; ComponentLink2Description: https://datasheet.ciiva.com/2489/rl-data-sheet-2489458.pdf?src-supplier=Digi-Key; Supplier Part Number 1: 408-1479-1-ND; Supplier 2: Mouser
footprint STACKPOLE CSR0603
pins: 1, 2

## RL0816T-R033-F
designator R?, comment 33mR
RES 0.033 OHM 1% 1/4W 0603; Manufacturer: Susumu; Manufacturer Part Number: RL0816T-R033-F; Description: Fixed Resistor, Thin Film, 0.25W, 0.033ohm, 0.0908V, 1% +/-Tol, 0,350ppm/Cel, Surface Mount, 0603; Power: 250mW; Rated Temperature: 70°C; Temperature Coefficient (ppm/Cel): 350; Package Height: 0.45mm; Package Length: 1.6mm; Package Width: 0.8mm; Supplier 1: Mouser; RoHS: Yes; Category: Chip SMD Resistors; Stock 1: 9602; Pricing 1: 1=0.3, 10=0.192, 50=0.144, 100=0.128, 1000=0.082, 10000=0.06 (USD); Mounting Technology: Surface Mount; Pins: 2; Package Shape: Rectangular; Case/Package: 0603; Terminal Finish: Tin; Min Operating Temperature: -55°C; Max Operating Temperature: 125°C; Tolerance: 1%; JESD-609 Code: e3; Resistor Type: FIXED RESISTOR; Construction: Chip; Value: 33mR; Technology: THIN FILM; Termination: Wraparound; Reach SVHC Compliant: Yes; RoHS Compliant: Yes; ComponentLink1URL: https://datasheet.ciiva.com:443/pdfs/VipMasterIC/IC/SUSU/SUSU-S-A0004662802/SUSU-S-A0004662802-1.pdf?src-supplier=IHS+Markit; ComponentLink1Description: https://datasheet.ciiva.com:443/pdfs/VipMasterIC/IC/SUSU/SUSU-S-A0004662802/SUSU-S-A0004662802-1.pdf?src-supplier=IHS+Markit; ComponentLink2URL: https://datasheet.ciiva.com/2502/e-15-16-2502058.pdf?src-supplier=Digikey; ComponentLink2Description: https://datasheet.ciiva.com/2502/e-15-16-2502058.pdf?src-supplier=Digikey; ComponentLink3URL: https://datasheet.ciiva.com/2502/e-15-16-2502059.pdf?src-supplier=Digikey; ComponentLink3Description: https://datasheet.ciiva.com/2502/e-15-16-2502059.pdf?src-supplier=Digikey; ComponentLink4URL: https://datasheet.ciiva.com/12915/e-15-16-12915349.pdf?src-supplier=Mouser; ComponentLink4Description: https://datasheet.ciiva.com/12915/e-15-16-12915349.pdf?src-supplier=Mouser; ComponentLink5URL: https://datasheet.ciiva.com/2502/rl-data-sheet-2502057.pdf?src-supplier=Digikey; ComponentLink5Description: https://datasheet.ciiva.com/2502/rl-data-sheet-2502057.pdf?src-supplier=Digikey
footprint STACKPOLE CSR0603
pins: 1, 2

## SN74LVC1G06YZPR
designator U?
IC Single Inverter Buffer/Driver With Open-Drain Output, YZP0005ADAD, LARGE T&R; Manufacturer: Texas Instruments; Voltage(Nom)(V): 1.8,2.5,3.3,5; ICC @ Nom Voltage(Max)(mA): 0.01; VCC(Min)(V): 1.65; tpd @ Nom Voltage(Max)(ns): 6.5,4,3; Input Type: CMOS/TTL; F @ Nom Voltage(Max)(Mhz): 150; Output Type: CMOS; Technology Family: LVC; Rating: Catalog; Schmitt Trigger: No; Sub-Family: Inverting Buffer/Driver; Output Drive (IOL/IOH)(Max)(mA): 32/-32; VCC(Max)(V): 5.5; Bits(#): 1; Logic: Inverting; PackageReference: YZP0005ADAD; 3-State Output: No; Generic Part Number: SN74LVC1G06; DatasheetVersion: SCES295W; Operating Temperature Range(C): -40 to 125,-40 to 85; Manufacturer Part Number: SN74LVC1G06YZPR; Supplier 1: Mouser; Supplier Part Number 1: 595-SN74LVC1G06YZPR
footprint YZP0005ADAD (BGA, 5-Balls, Body 1.39x0.89mm, Pitch 0.5mm)
part A pins: B1 A (in), C2 Y (oc)
part B pins: A1 DNU, A2 VCC (power), C1 GND (power)

## SN74LVC1G08YZPR
designator U?
IC Single 2-Input Positive-AND Gate, YZP0005ADAD, LARGE T&R; Manufacturer: Texas Instruments; Voltage(Nom)(V): 1.8,2.5,3.3,5; VCC(Min)(V): 1.65; Bits(#): 1; VCC(Max)(V): 5.5; ICC @ Nom Voltage(Max)(mA): 0.01; Input Type: CMOS/TTL; Output Type: CMOS; 3-State Output: No; Output Drive (IOL/IOH)(Max)(mA): 32/-32; Logic: True; Gate Type: AND; F @ Nom Voltage(Max)(Mhz): 150; tpd @ Nom Voltage(Max)(ns): 4.5,6,4,5; Technology Family: LVC; Rating: Catalog; Sub-Family: AND Gate; Operating Temperature Range(C): -40 to 125,-40 to 85; PackageReference: YZP0005ADAD; Schmitt Trigger: No; Generic Part Number: SN74LVC1G08; DatasheetVersion: SCES217Y; Manufacturer Part Number: SN74LVC1G08YZPR; Supplier 1: Mouser; Supplier Part Number 1: 595-SN74LVC1G08YZPR
footprint YZP0005ADAD (BGA, 5-Balls, Body 1.39x0.89mm, Pitch 0.5mm)
part A pins: A1 A (in) "Input", B1 B (in) "Input", C2 Y (out) "Output"
part B pins: A2 VCC (power) "Power pin", C1 GND (power) "Ground"

## SPL_S4L90A_3_A01
designator D?
Diode Laser; Manufacturer_Name: OSRAM; Manufacturer_Part_Number: SPL S4L90A_3 A01; Datasheet Link: https://dammedia.osram.info/media/resource/hires/osram-dam-6648421/SPL%20S4L90A_3%20A01_EN.pdf; Height: 0.69mm; Mouser Part Number: 720-SPLS4L90A3A01; Mouser Price/Stock: https://www.mouser.co.uk/ProductDetail/OSRAM-Opto-Semiconductors/SPL-S4L90A_3-A01?qs=OlC7AqGiEDn4aov%2F5GIeZw%3D%3D; Supplier 1: Mouser; Supplier Part Number 1: 720-SPLS4L90A3A01
footprint SPLS4L90A_3A01
pins: 1 ANODE_CH1, 2 ANODE_CH2, 3 ANODE_CH3, 4 ANODE_CH4, 5 COM_CATHODE

## Test Pad
designator 11  (no BOM)
0.6mm SMT Test Pad; Mounting Technology: SMT
footprint Pad-0.6mm (SMT Test Pad)
pins: 1 "Reserved. Connect to VDDIO."

## TI-SN74XXX1X02-5
designator U?, comment SN74LVC1G02DCKR
Single 2-Input Positive-NOR Gate, DCK0005A, LARGE T&R; Manufacturer: Texas Instruments; Gate Type: NOR; F @ Nom Voltage(Max)(Mhz): 150; Input Type: CMOS/TTL; Logic: True; 3-State Output: No; VCC(Min)(V): 1.65; Bits(#): 1; tpd @ Nom Voltage(Max)(ns): 8,5.5,4.5,4; ICC @ Nom Voltage(Max)(mA): 0.01; Technology Family: LVC; Output Drive (IOL/IOH)(Max)(mA): 32/-32; Output Type: CMOS; Rating: Catalog; VCC(Max)(V): 5.5; Voltage(Nom)(V): 1.8,2.5,3.3,5; Sub-Family: NOR Gate; Generic Part Number: SN74LVC1G02; PackageReference: DCK0005A; Schmitt Trigger: No; DatasheetVersion: SCES213X; Operating Temperature Range(C): -40 to 125,-40 to 85
footprint SOT95P275X110-5N
part A pins: 1 A (in) "Input A", 2 B (in) "Input B", 4 Y (out) "Output Y"
part B pins: 3 GND (power) "Ground Pin", 5 VCC (power) "Power Pin"

## TI-SN74XXX1X08-5
designator U?, comment SN74LVC1G08DCKR
Single 2-Input Positive-AND Gate, DCK0005A, LARGE T&R; Manufacturer: Texas Instruments; tpd @ Nom Voltage(Max)(ns): 4.5,6,4,5; F @ Nom Voltage(Max)(Mhz): 150; ICC @ Nom Voltage(Max)(mA): 0.01; Bits(#): 1; VCC(Min)(V): 1.65; Gate Type: AND; Rating: Catalog; Output Type: CMOS; Voltage(Nom)(V): 1.8,2.5,3.3,5; Technology Family: LVC; VCC(Max)(V): 5.5; Input Type: CMOS/TTL; Schmitt Trigger: No; Output Drive (IOL/IOH)(Max)(mA): 32/-32; Logic: True; Generic Part Number: SN74LVC1G08; DatasheetVersion: SCES217Y; Sub-Family: AND Gate; 3-State Output: No; Operating Temperature Range(C): -40 to 125,-40 to 85; PackageReference: DCK0005A
footprint SOT95P275X110-5N
part A pins: 1 A (in) "Input A", 2 B (in) "Input B", 4 Y (out) "Output Y"
part B pins: 3 GND (power) "Ground Pin", 5 VCC (power) "Power Pin"

## TPSM265R1V3SILR
designator U1
3-V TO 65-V INPUT, 100-MA, STEP-; Manufacturer: Texas Instruments; Supplier 1: Mouser; Manufacturer Part Number: TPSM265R1V3SILR; RoHS: Yes; Category: Voltage Regulators - Switching; Stock 1: 6360; Pricing 1: 1=4.24, 10=3.61, 50=3.61, 100=3.13, 1000=2.25, 10000=2.13 (USD); Supplier Part Number 1: 595-TPSM265R1V3SILR
footprint FP-SIL0010C-MFG
pins: 1 VOUT, 2 SS, 3-6-11 GND (power), 4-5 VIN (power), 7 HYS (power), 8 SENSE+ (power), 9 EN, 10 PGOOD

## UCC27524DR
designator U?
Integrated Circuit; Manufacturer_Name: Texas Instruments; Datasheet Link: http://www.ti.com/lit/gpn/ucc27524; Height: 1.75mm; Manufacturer_Part_Number: UCC27524DR; Mouser Part Number: 595-UCC27524DR; Mouser Price/Stock: https://www.mouser.co.uk/ProductDetail/Texas-Instruments/UCC27524DR?qs=iuXUNOC6nYdK8rrTqka0jA%3D%3D; Arrow Part Number: UCC27524DR; Arrow Price/Stock: https://www.arrow.com/en/products/ucc27524dr/texas-instruments?region=nac
footprint SOIC127P600X175-8N
pins: 1 ENA (in), 2 INA (in), 3 GND (power), 4 INB (in), 5 OUTB (io), 6 VDD (power), 7 OUTA (io), 8 ENB (in)

## WSL3637R0100DEA
designator R?  Supplier Part Number 1: 71-WSL3637R0100DEA
current measurement Resistor; Manufacturer_Name: Vishay; Datasheet Link: https://componentsearchengine.com/Datasheets/1/WSL3637R0100DEA.pdf; Height: 0.889mm; Manufacturer_Part_Number: WSL3637R0100DEA; Mouser Part Number: 71-WSL3637R0100DEA; Mouser Price/Stock: https://www.mouser.co.uk/ProductDetail/Vishay-Dale/WSL3637R0100DEA?qs=5qr1tyFj3NLzr0u0T49OJA%3D%3D; Arrow Part Number: WSL3637R0100DEA; Arrow Price/Stock: https://www.arrow.com/en/products/wsl3637r0100dea/vishay; Supplier 1: Mouser
footprint WSL3637R0100DEA
pins: 1, 2, 3, 4

## ZRB18AR61E106ME01L
designator C?, comment 10uF
CAP CER 10UF 25V X5R 0603; Manufacturer: Murata; Manufacturer Part Number: ZRB18AR61E106ME01L; Dielectric Material: Ceramic; Multilayer: Yes; Tolerance  (fill in as +-): 20%; Supplier 1: Mouser; RoHS: Yes; Category: Ceramic Capacitors; Stock 1: 348476; Pricing 1: 1=0.36, 10=0.18, 50=0.18, 100=0.128, 1000=0.122, 10000=0.097 (USD); Mounting Technology: Surface Mount; Pins: 2; Package Shape: Rectangular; Case/Package: 0603; Min Operating Temperature: -55°C; Max Operating Temperature: 85°C; Capacitor Type: Ceramic; Packaging: Tape and Reel; Tolerance (fill in as +-): 20%; Rated DC Voltage (URdc): 25V; Temperature Characteristics Code: X5R; Termination: Wraparound; Reach SVHC Compliant: Yes; RoHS Compliant: Yes; ComponentLink1URL: https://datasheet.ciiva.com:443/pdfs/VipMasterIC/IC/MURE/MURE-S-A0004380799/MURE-S-A0004414239-1.pdf?src-supplier=IHS+Markit; ComponentLink1Description: https://datasheet.ciiva.com:443/pdfs/VipMasterIC/IC/MURE/MURE-S-A0004380799/MURE-S-A0004414239-1.pdf?src-supplier=IHS+Markit; ComponentLink2URL: http://www.farnell.com/datasheets/2243360.pdf?src-supplier=Farnell; ComponentLink2Description: http://www.farnell.com/datasheets/2243360.pdf?src-supplier=Farnell; ComponentLink3URL: http://www.farnell.com/datasheets/2243360.pdf?src-supplier=Newark; ComponentLink3Description: http://www.farnell.com/datasheets/2243360.pdf?src-supplier=Newark; ComponentLink4URL: https://datasheet.octopart.com/ZRB18AR61E106ME01L-Murata-datasheet-67356777.pdf?src-supplier=Element14; ComponentLink4Description: https://datasheet.octopart.com/ZRB18AR61E106ME01L-Murata-datasheet-67356777.pdf?src-supplier=Element14; ComponentLink5URL: https://search.murata.co.jp/Ceramy/image/img/A01X/G101/ENG/ZRB18AR61E106ME01-01.pdf?src-supplier=Digi-Key; ComponentLink5Description: https://search.murata.co.jp/Ceramy/image/img/A01X/G101/ENG/ZRB18AR61E106ME01-01.pdf?src-supplier=Digi-Key; ComponentLink6URL: http://www.farnell.com/datasheets/1885591.pdf?src-supplier=Newark; ComponentLink6Description: http://www.farnell.com/datasheets/1885591.pdf?src-supplier=Newark; ComponentLink7URL: http://www.farnell.com/datasheets/2243360.pdf?src-supplier=Element14; ComponentLink7Description: http://www.farnell.com/datasheets/2243360.pdf?src-supplier=Element14; ComponentLink8URL: https://datasheet.octopart.com/ZRB18AR61E106ME01L-Murata-datasheet-166166243.pdf?src-supplier=TME; ComponentLink8Description: https://datasheet.octopart.com/ZRB18AR61E106ME01L-Murata-datasheet-166166243.pdf?src-supplier=TME; Supplier Part Number 1: 81-ZRB18AR61E106ME1L; Value: 10uF
footprint CAP 0603_1608
pins: 1, 2